# Altium footprint library RogoIR.PcbLib: 20 footprints (part 1 of 2)
Each footprint in its own frame and in the unit in brackets; x right, y up, seen from the top. Pads: shape width x height; smd on the part's side, far side on the other; paste and mask are expansions set on the pad; w line width, h text height; cw(c..) or ccw(c..) is an arc to the next point about the centre after c.
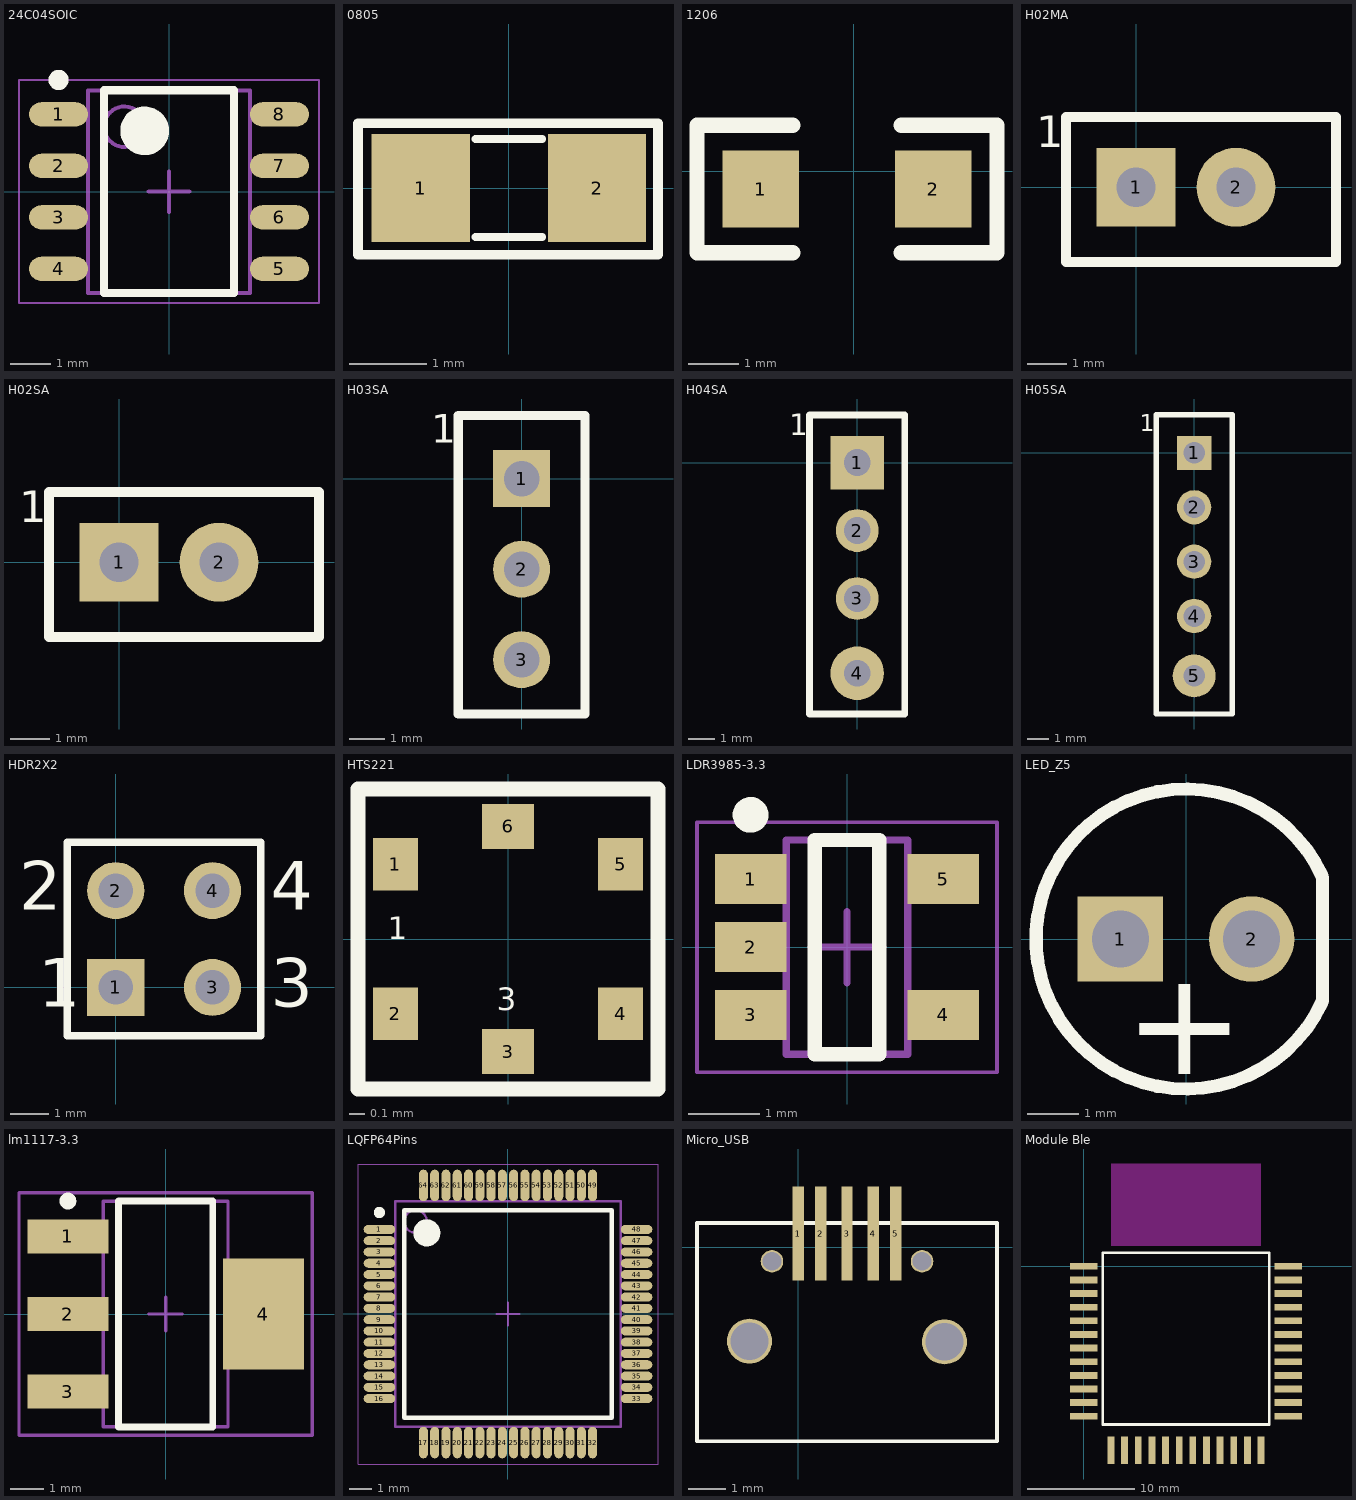
[diagram p0: the footprints below, top view; thin cyan lines are the x and y axes]

## 24C04SOIC [mm]
pads (8):
  oval 1.45x0.6 smd: 1(-2.725,1.905) 2(-2.725,0.635) 3(-2.725,-0.635) 4(-2.725,-1.905) 5(2.725,-1.905) 6(2.725,-0.635) 7(2.725,0.635) 8(2.725,1.905)
Top Overlay:
  circle w0.25: c-2.725,2.755 r0.125
  circle w0.6: c-0.6,1.5 r0.3
  lines w0.2: -1.6,-2.5 -1.6,2.5 1.6,2.5 1.6,-2.5 -1.6,-2.5
Mechanical 13:
  circle w0.1: c-1.1,1.6 r0.5
  lines w0.1: -2,-2.5 -2,2.5 2,2.5 2,-2.5 -2,-2.5
Mechanical 15:
  lines w0.05: -3.7,-2.75 -3.7,2.75 3.7,2.75 3.7,-2.75 -3.7,-2.75
  lines w0.1: -0.5,0 0.5,0 ; 0,-0.5 0,0.5
3D body: height 1.35, standoff 0.1, extent -2,-2.5 2,2.5

## 0805 [mil]
pads (2):
  rect 50x55 smd: 1(-45,0) 2(45,0)
Top Overlay:
  lines w4: -17,-25 17,-25 ; -17,25 17,25
  lines w5: -77,-34 76,-34 76,33 -77,33 -77,-34
3D body "SW3dPS-smt_resistor_packages.STEP": height 24.02, standoff -0.39, extent -39.76,-27 39.77,23

## 1206 [mil]
pads (2):
  rect 60x60 smd: 1(-72.68,-13.74) 2(62.32,-13.74)
Top Overlay:
  lines w12: -47.68,-63.74 -122.68,-63.74 -122.68,36.26 -47.68,36.26 ; 37.32,-63.74 112.32,-63.74 112.32,36.26 37.32,36.26

## H02MA [mm]
pads (2):
  rect 2x2 hole 1: 1(0,0)
  round 2 hole 1: 2(2.54,0)
Top Overlay:
  lines w0.254: -1.778,-1.905 5.08,-1.905 5.08,1.778 -1.778,1.778 -1.778,-1.905
  text "1" at -2.54,1.016 h0.8

## H02SA [mm]
pads (2):
  rect 2x2 hole 1: 1(0,0)
  round 2 hole 1: 2(2.54,0)
Top Overlay:
  lines w0.254: -1.778,-1.905 5.08,-1.905 5.08,1.778 -1.778,1.778 -1.778,-1.905
  text "1" at -2.54,1.016 h0.8

## H03SA [mm]
pads (3):
  rect 1.6x1.6 hole 1: 1(0,0)
  round 1.6 hole 1: 2(0,-2.54) 3(0,-5.08)
Top Overlay:
  lines w0.254: -1.778,-6.604 1.778,-6.604 1.778,1.778 -1.778,1.778 -1.778,-6.604
  text "1" at -2.54,1.016 h0.8

## H04SA [mm]
pads (4):
  rect 2x2 hole 1: 1(0,0)
  round 1.6 hole 1: 2(0,-2.54) 3(0,-5.08)
  round 2 hole 1: 4(0,-7.874)
Top Overlay:
  lines w0.254: -1.778,-9.398 1.778,-9.398 1.778,1.778 -1.778,1.778 -1.778,-9.398
  text "1" at -2.54,1.016 h0.8

## H05SA [mm]
pads (5):
  rect 1.6x1.6 hole 1: 1(0,0)
  round 1.6 hole 1: 2(0,-2.54) 3(0,-5.08) 4(0,-7.62)
  round 2 hole 1: 5(0,-10.414)
Top Overlay:
  lines w0.254: -1.778,-12.192 1.778,-12.192 1.778,1.778 -1.778,1.778 -1.778,-12.192
  text "1" at -2.54,1.016 h0.8

## HDR2X2 [mm]
pads (4):
  rect 1.5x1.5 hole 0.9: 1(0,0)
  round 1.5 hole 0.9: 2(0,2.54) 3(2.54,0) 4(2.54,2.54)
Top Overlay:
  lines w0.2: -1.27,-1.27 -1.27,3.81 3.81,3.81 3.81,-1.27 -1.27,-1.27
  text "1" at -2.032,-0.508 h1.27
  text "2" at -2.54,2.032 h1.27
  text "4" at 4.064,2.032 h1.27
  text "3" at 4.064,-0.508 h1.27

## HTS221 [mm]
pads (6):
  rect 0.3x0.35 smd mask+0.05: 1(-0.75,0.5) 2(-0.75,-0.5) 4(0.75,-0.5) 5(0.75,0.5)
  rect 0.35x0.3 smd mask+0.05: 3(0,-0.75) 6(0,0.75)
Top Overlay:
  lines w0.1: -1,-1 -1,1 1,1 1,-1 -1,-1
  text "3" at -0.075,-0.475 h0.15
  text "1" at -0.8,0 h0.15

## LDR3985-3.3 [mm]
pads (5):
  rect 1x0.7 smd: 1(-1.35,0.95) 2(-1.35,0) 3(-1.35,-0.95) 4(1.35,-0.95) 5(1.35,0.95)
Top Overlay:
  circle w0.25: c-1.35,1.85 r0.125
  lines w0.2: -0.45,-1.5 0.45,-1.5 0.45,1.5 -0.45,1.5 -0.45,-1.5
Mechanical 13:
  lines w0.1: -0.85,-1.5 -0.85,1.5 0.85,1.5 0.85,-1.5 -0.85,-1.5
Mechanical 15:
  lines w0.05: -2.1,-1.75 -2.1,1.75 2.1,1.75 2.1,-1.75 -2.1,-1.75
  lines w0.1: -0.5,0 0.5,0 ; 0,-0.5 0,0.5
3D body: height 0.9, standoff 0.05, extent -0.85,-1.5 0.85,1.5

## LED_Z5 [mil]
pads (2):
  rect 65x65 hole 43.31: 1(-50,0)
  round 65 hole 43.31: 2(50,0)
Top Overlay:
  lines w10: 103.49,-48.23 cw(c0,0) 103.49,48.23 ; 104,-47 104,46.9
  text "+" at -47,-103 h80

## lm1117-3.3 [mm]
pads (4):
  rect 2.4x1 smd: 1(-2.9,2.3) 2(-2.9,0) 3(-2.9,-2.3)
  rect 2.4x3.3 smd: 4(2.9,0)
Top Overlay:
  circle w0.25: c-2.9,3.35 r0.125
  lines w0.2: -1.4,-3.35 -1.4,3.35 1.4,3.35 1.4,-3.35 -1.4,-3.35
Mechanical 13:
  lines w0.1: -1.85,-3.35 -1.85,3.35 1.85,3.35 1.85,-3.35 -1.85,-3.35
Mechanical 15:
  lines w0.1: -0.5,0 0.5,0 ; 0,-0.5 0,0.5 ; -4.35,-3.6 -4.35,3.6 4.35,3.6 4.35,-3.6 -4.35,-3.6
3D body: height 1.8, standoff 0, extent -1.85,-3.35 1.85,3.35

## LQFP64Pins [mm]
pads (64):
  oval 1.4x0.4 smd: 1(-5.7,3.75) 2(-5.7,3.25) 3(-5.7,2.75) 4(-5.7,2.25) 5(-5.7,1.75) 6(-5.7,1.25) 7(-5.7,0.75) 8(-5.7,0.25) 9(-5.7,-0.25) 10(-5.7,-0.75) 11(-5.7,-1.25) 12(-5.7,-1.75) 13(-5.7,-2.25) 14(-5.7,-2.75) 15(-5.7,-3.25) 16(-5.7,-3.75) 33(5.7,-3.75) 34(5.7,-3.25) 35(5.7,-2.75) 36(5.7,-2.25) 37(5.7,-1.75) 38(5.7,-1.25) 39(5.7,-0.75) 40(5.7,-0.25) 41(5.7,0.25) 42(5.7,0.75) 43(5.7,1.25) 44(5.7,1.75) 45(5.7,2.25) 46(5.7,2.75) 47(5.7,3.25) 48(5.7,3.75)
  oval 0.4x1.4 smd: 17(-3.75,-5.7) 18(-3.25,-5.7) 19(-2.75,-5.7) 20(-2.25,-5.7) 21(-1.75,-5.7) 22(-1.25,-5.7) 23(-0.75,-5.7) 24(-0.25,-5.7) 25(0.25,-5.7) 26(0.75,-5.7) 27(1.25,-5.7) 28(1.75,-5.7) 29(2.25,-5.7) 30(2.75,-5.7) 31(3.25,-5.7) 32(3.75,-5.7) 49(3.75,5.7) 50(3.25,5.7) 51(2.75,5.7) 52(2.25,5.7) 53(1.75,5.7) 54(1.25,5.7) 55(0.75,5.7) 56(0.25,5.7) 57(-0.25,5.7) 58(-0.75,5.7) 59(-1.25,5.7) 60(-1.75,5.7) 61(-2.25,5.7) 62(-2.75,5.7) 63(-3.25,5.7) 64(-3.75,5.7)
Top Overlay:
  circle w0.25: c-5.7,4.5 r0.125
  circle w0.6: c-3.6,3.6 r0.3
  lines w0.2: -4.6,-4.6 -4.6,4.6 4.6,4.6 4.6,-4.6 -4.6,-4.6
Mechanical 13:
  circle w0.1: c-4.1,4.1 r0.5
  lines w0.1: -5,-5 -5,5 5,5 5,-5 -5,-5
Mechanical 15:
  lines w0.05: -6.65,-6.65 -6.65,6.65 6.65,6.65 6.65,-6.65 -6.65,-6.65
  lines w0.1: -0.5,0 0.5,0 ; 0,-0.5 0,0.5
3D body: height 1.6, standoff 0.15, extent -5,-5 5,5

## Micro_USB [mm]
pads (9):
  rect 0.3x2.5 smd mask+0.05: 1(0,0.37) 2(0.6,0.37) 3(1.3,0.37) 4(2,0.37) 5(2.6,0.37)
  round 1.2 hole 1 mask+0.05: ""(-1.3,-2.5) ""(3.9,-2.52)
  round 0.6 hole 0.5 mask+0.05: ""(-0.7,-0.37) ""(3.3,-0.37)
Top Overlay:
  lines w0.1: -2.7,-5.17 5.3,-5.17 5.3,0.65 -2.7,0.65 -2.7,-5.17
3D body "User Library-10104111.STEP": height 2.77, standoff -0.3, extent -3.1,-5.116 5.7,0.509

## Module Ble [mm]
pads (36):
  rect 2.54x0.635 smd: 1(0,0) 2(0,-1.27) 3(0,-2.54) 4(0,-3.81) 5(0,-5.08) 6(0,-6.35) 7(0,-7.62) 8(0,-8.89) 9(0,-10.16) 10(0,-11.43) 11(0,-12.7) 12(0,-13.97) 25(19.05,-13.97) 26(19.05,-12.7) 27(19.05,-11.43) 28(19.05,-10.16) 29(19.05,-8.89) 30(19.05,-7.62) 31(19.05,-6.35) 32(19.05,-5.08) 33(19.05,-3.81) 34(19.05,-2.54) 35(19.05,-1.27) 36(19.05,0)
  rect 0.635x2.54 smd: 13(2.54,-17.145) 14(3.81,-17.145) 15(5.08,-17.145) 16(6.35,-17.145) 17(7.62,-17.145) 18(8.89,-17.145) 19(10.16,-17.145) 20(11.43,-17.145) 21(12.7,-17.145) 22(13.97,-17.145) 23(15.24,-17.145) 24(16.51,-17.145)
Top Overlay:
  lines w0.254: 1.778,-14.732 17.272,-14.732 17.272,1.27 1.778,1.27 1.778,-14.732
Keep-Out Layer:
  region: 2.54,9.525 2.54,1.905 16.51,1.905 16.51,9.525